# Altium footprint library SOIC127P600X155-8N.PcbLib: 1 footprints
Each footprint in its own frame and in the unit in brackets; x right, y up, seen from the top. Pads: shape width x height; smd on the part's side, far side on the other; paste and mask are expansions set on the pad; w line width, h text height; cw(c..) or ccw(c..) is an arc to the next point about the centre after c.
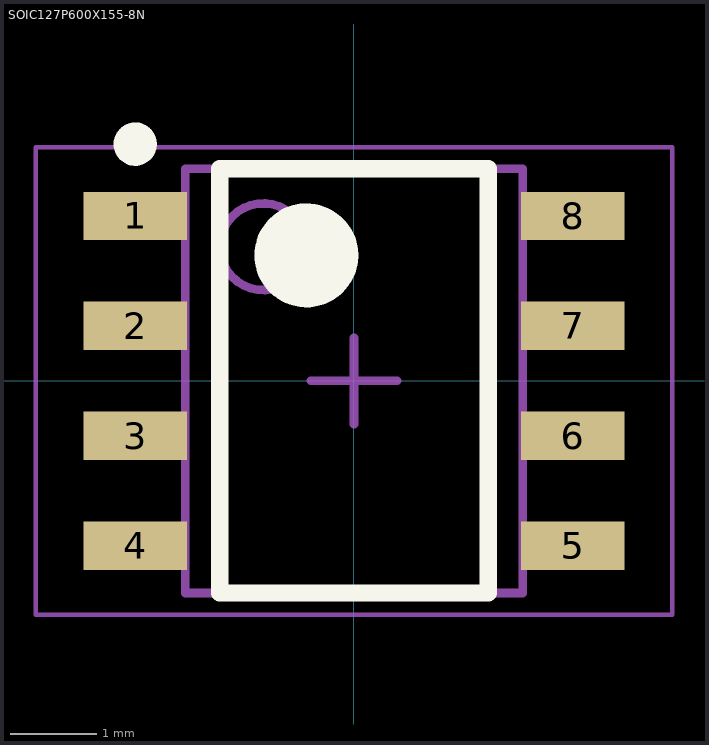
[diagram p0: the footprint, top view; thin cyan lines are the x and y axes]

## SOIC127P600X155-8N [mil] "SOIC, 8-Leads, Body 4.85x3.90mm, Pitch 1.27mm, IPC Medium Density"
height 61.02
pads (8):
  rect 47.01x22.01 smd: 1(-99.5,75) 2(-99.5,25) 3(-99.5,-25) 4(-99.5,-75) 5(99.5,-75) 6(99.5,-25) 7(99.5,25) 8(99.5,75)
Top Overlay:
  circle w23.62: c-21.65,57.09 r11.81
  circle w9.84: c-99.5,107.66 r4.92
  lines w7.87: -61.02,-96.46 61.02,-96.46 61.02,96.46 -61.02,96.46 -61.02,-96.46
Mechanical 13:
  circle w3.94: c-41.34,61.02 r19.68
  lines w3.94: -76.77,-96.46 76.77,-96.46 76.77,96.46 -76.77,96.46 -76.77,-96.46
Mechanical 15:
  lines w1.97: -144.69,-106.3 144.69,-106.3 144.69,106.3 -144.69,106.3 -144.69,-106.3
  lines w3.94: -19.68,0 19.69,0 ; 0,-19.68 0,19.68
3D body: height 61.02, standoff 61.02, extent -76.77,-96.46 76.77,96.46